# Altium footprint library CAPC0510X020.PcbLib: 3 footprints
Each footprint in its own frame and in the unit in brackets; x right, y up, seen from the top. Pads: shape width x height; smd on the part's side, far side on the other; paste and mask are expansions set on the pad; w line width, h text height; cw(c..) or ccw(c..) is an arc to the next point about the centre after c.
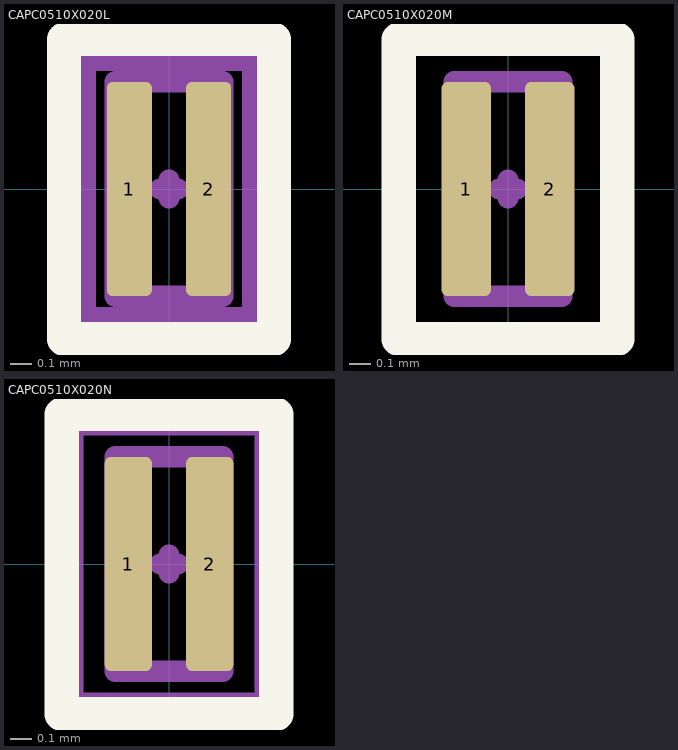
[diagram p0: the footprints below, top view; thin cyan lines are the x and y axes]

## CAPC0510X020L [mm] "Capacitors, Chip, Non-polarized"
height 0.22
pads (2):
  rrect25% 0.21x1 smd: 1(-0.185,0) 2(0.185,0)
Top Overlay:
  lines w0.16: -0.49,-0.7 0.49,-0.7 0.49,0.7 -0.49,0.7 -0.49,-0.7
Top Component Center:
  lines w0.1: -0.04,0 0.04,0 ; 0,-0.04 0,0.04
Top Courtyard:
  lines w0.1: -0.39,-0.6 0.39,-0.6 0.39,0.6 -0.39,0.6 -0.39,-0.6
Top Assembly:
  lines w0.1: -0.25,-0.5 0.25,-0.5 0.25,0.5 -0.25,0.5 -0.25,-0.5
  text ".Designator" at 0,0 h1
3D body "CAPC0510X020L.STEP": height 0.2, standoff 0, extent -0.25,-0.5 0.25,0.5

## CAPC0510X020M [mm] "Capacitors, Chip, Non-polarized"
height 0.22
pads (2):
  rrect25% 0.23x1 smd: 1(-0.195,0) 2(0.195,0)
Top Overlay:
  lines w0.16: -0.51,-0.7 0.51,-0.7 0.51,0.7 -0.51,0.7 -0.51,-0.7
Top Component Center:
  lines w0.1: -0.04,0 0.04,0 ; 0,-0.04 0,0.04
Top Courtyard:
  lines w0.1: -0.51,-0.7 0.51,-0.7 0.51,0.7 -0.51,0.7 -0.51,-0.7
Top Assembly:
  lines w0.1: -0.25,-0.5 0.25,-0.5 0.25,0.5 -0.25,0.5 -0.25,-0.5
  text ".Designator" at 0,0 h1
3D body "CAPC0510X020M.STEP": height 0.2, standoff 0, extent -0.25,-0.5 0.25,0.5

## CAPC0510X020N [mm] "Capacitors, Chip, Non-polarized"
height 0.22
pads (2):
  rrect25% 0.22x1 smd: 1(-0.19,0) 2(0.19,0)
Top Overlay:
  lines w0.16: -0.5,-0.7 0.5,-0.7 0.5,0.7 -0.5,0.7 -0.5,-0.7
Top Component Center:
  lines w0.1: -0.04,0 0.04,0 ; 0,-0.04 0,0.04
Top Courtyard:
  lines w0.1: -0.45,-0.65 0.45,-0.65 0.45,0.65 -0.45,0.65 -0.45,-0.65
Top Assembly:
  lines w0.1: -0.25,-0.5 0.25,-0.5 0.25,0.5 -0.25,0.5 -0.25,-0.5
  text ".Designator" at 0,0 h1
3D body "CAPC0510X020N.STEP": height 0.2, standoff 0, extent -0.25,-0.5 0.25,0.5